# Altium schematic symbol library CS2300-CP.SchLib: 1 symbol
Pins are listed as number, name and electrical type; pins without a type are passive.

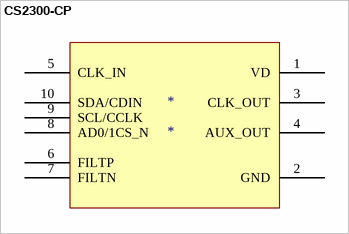
[diagram p0: symbol CS2300-CP]

## CS2300-CP
designator *
footprint TSSOP50P490-10AL (TSSOP, 10-Leads, Body 3x3mm, Pitch 0.5mm, IPC High Density)
pins: 1 VD, 2 GND, 3 CLK_OUT, 4 AUX_OUT, 5 CLK_IN, 6 FILTP, 7 FILTN, 8 AD0/1CS_N, 9 SCL/CCLK, 10 SDA/CDIN